# Altium footprint library PCB - SWITCHES - 218-2LPSTR.PCBLIB: 1 footprints
Each footprint in its own frame and in the unit in brackets; x right, y up, seen from the top. Pads: shape width x height; smd on the part's side, far side on the other; paste and mask are expansions set on the pad; w line width, h text height; cw(c..) or ccw(c..) is an arc to the next point about the centre after c.
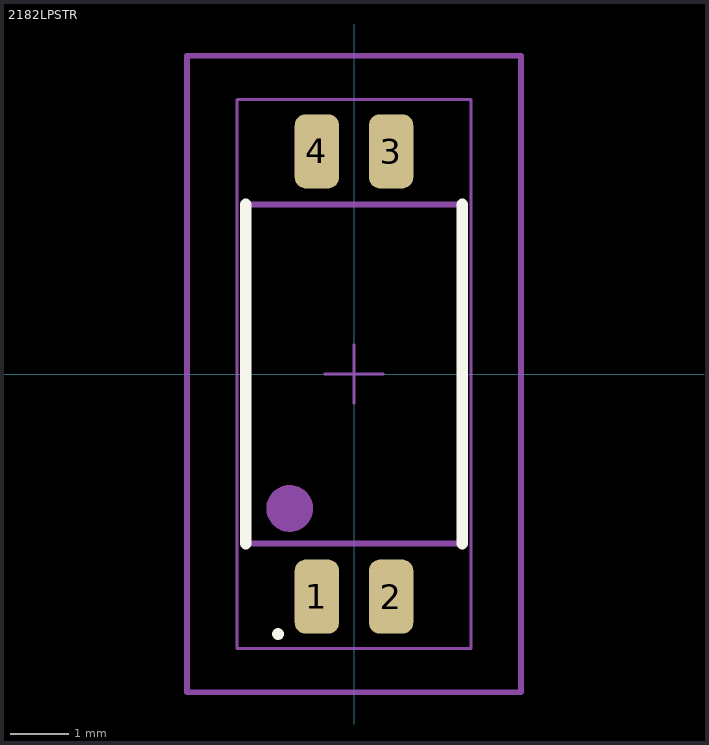
[diagram p0: the footprint, top view; thin cyan lines are the x and y axes]

## 2182LPSTR [mm]
pads (4):
  rrect50% 0.76x1.27 smd: 1(-0.635,-3.81) 2(0.635,-3.81) 3(0.635,3.81) 4(-0.635,3.81)
Top Overlay:
  lines w0.1: -1.3,-4.5 ccw(c-1.3,-4.45) -1.3,-4.4 ccw(c-1.3,-4.45) -1.3,-4.5
  lines w0.2: -1.855,-2.9 -1.855,2.9 ; 1.855,-2.9 1.855,2.9
Top Assembly:
  circle w0.4: c-1.1,-2.3 r0.2
  lines w0.1: -1.855,-2.9 -1.855,2.9 1.855,2.9 1.855,-2.9 -1.855,-2.9
Top Courtyard:
  lines w0.05: -2,-4.7 2,-4.7 2,4.7 -2,4.7 -2,-4.7
Top Designator:
  text ".Designator" at -1,-0.3 h0.76
Top Component Center:
  lines w0.05: -0.5,0 0.5,0 ; 0,-0.5 0,0.5
Mechanical 20:
  lines w0.1: -2.855,-5.445 -2.855,5.445 2.855,5.445 2.855,-5.445 -2.855,-5.445
3D body "218-2LPSTR.stp": height 2.5, standoff -0.01, extent -1.855,-4.216 1.855,4.216